# Altium schematic symbol library tp.SchLib: 1 symbol
Pins are listed as number, name and electrical type; pins without a type are passive.

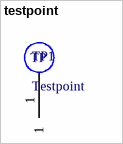
[diagram p0: symbol testpoint]

## testpoint
designator TP1, comment Testpoint  (no BOM)
footprint Testpoint
pins: 1
text: TP